# Altium schematic symbol library 2MS1T1B4VS2QES.SchLib: 1 symbol
Pins are listed as number, name and electrical type; pins without a type are passive.

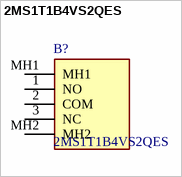
[diagram p0: symbol 2MS1T1B4VS2QES]

## 2MS1T1B4VS2QES
designator B?
Toggle Switches; Manufacturer_Name: Dailywell; Geometry.Height: 23.61mm; Manufacturer_Part_Number: 2MS1T1B4VS2QES; Mouser Part Number: N/A; Mouser Price/Stock: https://www.mouser.co.uk/ProductDetail/Dailywell/2MS1T1B4VS2QES?qs=Zz7%252BYVVL6bHHqAn5ycuDAQ%3D%3D; Arrow Part Number: *; Arrow Price/Stock: *; Datasheet Link: https://akizukidenshi.com/download/ds/cosland/2MS1-T1-B4-VS2-Q-E-S.pdf
footprint 2MS1T1B4VS2QES
pins: 1 NO, 2 COM, 3 NC, MH1, MH2